# EAGLE library part DC56-11 (library display-kingbright)
14.22mm (0.56INCH) DUAL DIGIT NUMERIC DISPLAYS Source: www.kingbright.com .. DA56-11SRWA.pdf
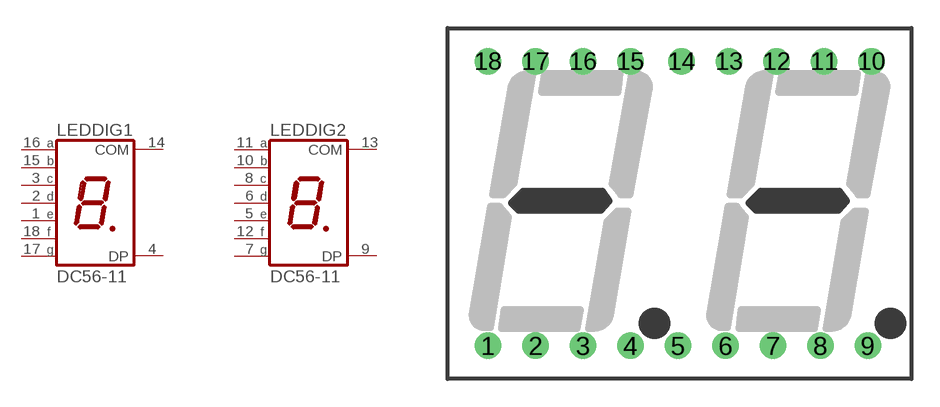
[diagram p7: symbol with the pads of DA56; footprint DA56]

Designator prefix LED; gates DIG1=7SEG-LED-COM1 DIG2=7SEG-LED-COM1

## DC56-11EWA (OC_FARNELL: unknown; OC_NEWARK: unknown), DC56-11GWA (OC_FARNELL: unknown; OC_NEWARK: unknown), DC56-11SRWA (OC_FARNELL: unknown; OC_NEWARK: unknown), DC56-11YWA (OC_FARNELL: unknown; OC_NEWARK: unknown)  [DA56]
1  DIG1:E  pas
2  DIG1:D  pas
3  DIG1:C  pas
4  DIG1:DP  pas
5  DIG2:E  pas
6  DIG2:D  pas
7  DIG2:G  pas
8  DIG2:C  pas
9  DIG2:DP  pas
10  DIG2:B  pas
11  DIG2:A  pas
12  DIG2:F  pas
13  DIG2:COM  pas
14  DIG1:COM  pas
15  DIG1:B  pas
16  DIG1:A  pas
17  DIG1:G  pas
18  DIG1:F  pas

## Footprint DA56 (pad centres in mm)
14.22mm (0.56INCH) DUAL DIGIT NUMERIC DISPLAYS Source: DA56-11SRWA.pdf
drill 0.8 pad 1.422: 1 -10.26,-7.62; 2 -7.72,-7.62; 3 -5.18,-7.62; 4 -2.64,-7.62; 5 -0.1,-7.62; 6 2.44,-7.62; 7 4.98,-7.62; 8 7.52,-7.62; 9 10.06,-7.62; 10 10.26,7.62; 11 7.72,7.62; 12 5.18,7.62; 13 2.64,7.62; 14 0.1,7.62; 15 -2.64,7.62; 16 -5.18,7.62; 17 -7.72,7.62; 18 -10.26,7.62